# Altium schematic symbol library pwr_switching_module.SchLib: 36 symbols
Pins are listed as number, name and electrical type; pins without a type are passive.

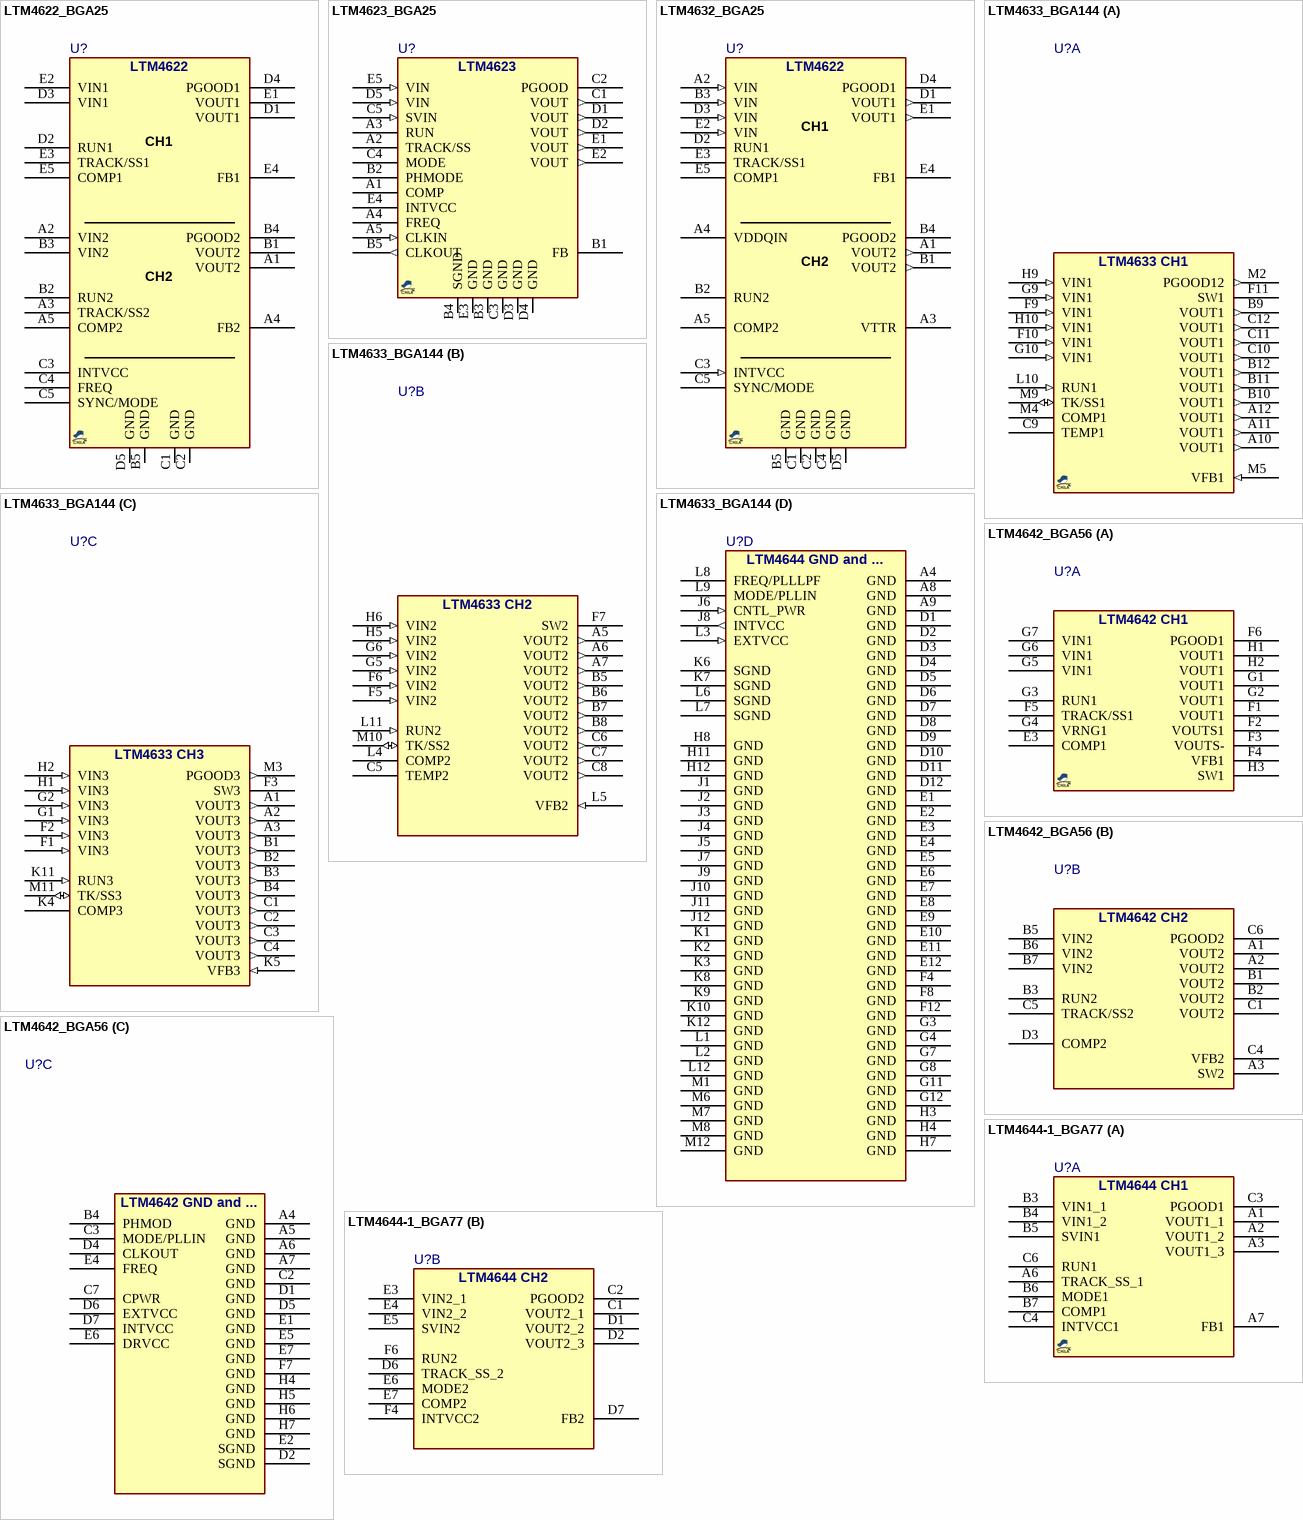
[diagram p0: symbols LTM4622_BGA25 to LTM4644-1_BGA77]

## LTM4622_BGA25
designator U?, comment LTM4622  (value not drawn)
DC2DC Switching MODULE, Dual, 2.5A; MANF: Analog Devices; MANF_P#: LTM4622EY, LTM4622IY; PARAM2: 3.6~20VIN, 0.6~5.5VOUT; PARAM: Dual 2.5A, –40~125°C; PRICE: -; VALUE: LTM4622; PACKAGE: BGA-25
footprint BGA127_25_6262 (BGA 5X5ball, pitch: 1.27mm, 6.25X6.25mm)
pins: A1 VOUT2, A2 VIN2, A3 TRACK/SS2, A4 FB2, A5 COMP2, B1 VOUT2, B2 RUN2, B3 VIN2, B4 PGOOD2, B5 GND, C1 GND, C2 GND, C3 INTVCC, C4 FREQ, C5 SYNC/MODE, D1 VOUT1, D2 RUN1, D3 VIN1, D4 PGOOD1, D5 GND, E1 VOUT1, E2 VIN1, E3 TRACK/SS1, E4 FB1, E5 COMP1
text: CH1; CH2

## LTM4623_BGA25
designator U?, comment LTM4623  (value not drawn)
DC2DC Switching MODULE, 3A; MANF: Analog Devices; MANF_P#: LTM4623IY; PARAM2: 4~20VIN, 0.6~5.5VOUT; PARAM: 3A,-40~125°C; PRICE: -; VALUE: LTM4623; PACKAGE: BGA-25
footprint BGA127_25_6262 (BGA 5X5ball, pitch: 1.27mm, 6.25X6.25mm)
pins: A1 COMP, A2 TRACK/SS, A3 RUN, A4 FREQ, A5 CLKIN (in), B1 FB, B2 PHMODE, B3 GND (power), B4 SGND (power), B5 CLKOUT (out), C1 VOUT (out), C2 PGOOD, C3 GND (power), C4 MODE, C5 SVIN (in), D1 VOUT (out), D2 VOUT (out), D3 GND (power), D4 GND (power), D5 VIN (in), E1 VOUT (out), E2 VOUT (out), E3 GND (power), E4 INTVCC (power), E5 VIN (in)

## LTM4632_BGA25
designator U?, comment LTM4632  (value not drawn)
DC2DC Switching MODULE, dual 3A; MANF: Analog Devices; MANF_P#: LTM4632IY; PARAM2: 3.6~15VIN, 0.6~2.5VOUT; PARAM: Dual 3A,-40~125°C; PRICE: -; VALUE: LTM4632; PACKAGE: BGA-25
footprint BGA127_25_6262 (BGA 5X5ball, pitch: 1.27mm, 6.25X6.25mm)
pins: A1 VOUT2 (out), A2 VIN (in), A3 VTTR, A4 VDDQIN, A5 COMP2, B1 VOUT2 (out), B2 RUN2, B3 VIN (in), B4 PGOOD2, B5 GND, C1 GND, C2 GND, C3 INTVCC (in), C4 GND, C5 SYNC/MODE, D1 VOUT1 (out), D2 RUN1, D3 VIN (in), D4 PGOOD1, D5 GND, E1 VOUT1 (out), E2 VIN (in), E3 TRACK/SS1, E4 FB1, E5 COMP1
text: LTM4622; CH1; CH2

## LTM4633_BGA144
designator U?, comment LTM4633  (value not drawn)
DC2DC Switching MODULE, Triple 10A; MANF: ANALOG DEVICE; MANF_P#: LTM4633EY; PARAM2: 4.7~16VIN, 0.8~5.5VOUT; PARAM: Triple 10A, -40~125°C; PRICE: -; VALUE: LTM4633; PACKAGE: BGA-144
footprint BGA127_144_1515 (BGA 12X12ball, pitch: 1.27mm, 15x15x5mm)
part A pins: A10 VOUT1 (out), A11 VOUT1 (out), A12 VOUT1 (out), B9 VOUT1 (out), B10 VOUT1 (out), B11 VOUT1 (out), B12 VOUT1 (out), C9 TEMP1, C10 VOUT1 (out), C11 VOUT1 (out), C12 VOUT1 (out), F9 VIN1 (in), F10 VIN1 (in), F11 SW1, G9 VIN1 (in), G10 VIN1 (in), H9 VIN1 (in), H10 VIN1 (in), L10 RUN1 (in), M2 PGOOD12 (out), M4 COMP1, M5 VFB1 (in), M9 TK/SS1 (io)
part B pins: A5 VOUT2 (out), A6 VOUT2 (out), A7 VOUT2 (out), B5 VOUT2 (out), B6 VOUT2 (out), B7 VOUT2 (out), B8 VOUT2 (out), C5 TEMP2, C6 VOUT2 (out), C7 VOUT2 (out), C8 VOUT2 (out), F5 VIN2 (in), F6 VIN2 (in), F7 SW2, G5 VIN2 (in), G6 VIN2 (in), H5 VIN2 (in), H6 VIN2 (in), L4 COMP2, L5 VFB2 (in), L11 RUN2 (in), M10 TK/SS2 (io)
part C pins: A1 VOUT3 (out), A2 VOUT3 (out), A3 VOUT3 (out), B1 VOUT3 (out), B2 VOUT3 (out), B3 VOUT3 (out), B4 VOUT3 (out), C1 VOUT3 (out), C2 VOUT3 (out), C3 VOUT3 (out), C4 VOUT3 (out), F1 VIN3 (in), F2 VIN3 (in), F3 SW3, G1 VIN3 (in), G2 VIN3 (in), H1 VIN3 (in), H2 VIN3 (in), K4 COMP3, K5 VFB3 (in), K11 RUN3 (in), M3 PGOOD3 (out), M11 TK/SS3 (io)
part D pins: A4 GND (power), A8 GND (power), A9 GND (power), D1 GND (power), D2 GND (power), D3 GND (power), D4 GND (power), D5 GND (power), D6 GND (power), D7 GND (power), D8 GND (power), D9 GND (power), D10 GND (power), D11 GND (power), D12 GND (power), E1 GND (power), E2 GND (power), E3 GND (power), E4 GND (power), E5 GND (power), E6 GND (power), E7 GND (power), E8 GND (power), E9 GND (power), E10 GND (power), E11 GND (power), E12 GND (power), F4 GND (power), F8 GND (power), F12 GND (power), G3 GND (power), G4 GND (power), G7 GND (power), G8 GND (power), G11 GND (power), G12 GND (power), H3 GND (power), H4 GND (power), H7 GND (power), H8 GND (power), H11 GND (power), H12 GND (power), J1 GND (power), J2 GND (power), J3 GND (power), J4 GND (power), J5 GND (power), J6 CNTL_PWR (in), J7 GND (power), J8 INTVCC (out), J9 GND (power), J10 GND (power), J11 GND (power), J12 GND (power), K1 GND (power), K2 GND (power), K3 GND (power), K6 SGND (power), K7 SGND (power), K8 GND (power), K9 GND (power), K10 GND (power), K12 GND (power), L1 GND (power), L2 GND (power), L3 EXTVCC (in), L6 SGND (power), L7 SGND (power), L8 FREQ/PLLLPF, L9 MODE/PLLIN, L12 GND (power), M1 GND (power), M6 GND (power), M7 GND (power), M8 GND (power), M12 GND (power)
part A text: LTM4633 CH1
part B text: LTM4633 CH2
part C text: LTM4633 CH3
part D text: LTM4644 GND and ...

## LTM4642_BGA56
designator U?, comment LTM4642  (value not drawn)
DC2DC Switching MODULE, DUAL, 4A; MANF: ANALOG DEVICE; MANF_P#: LTM4642EY, LTM4642IY; PARAM2: 4.5~20VIN, 0.6~5.5VOUT; PARAM: 4A, –40~125°C; PRICE: -; VALUE: LTM4642; PACKAGE: BGA-56 9x11
footprint BGA127_56_1109 (LTM4642, BGA 7X8ball, pitch: 1.27mm, 9X11X5mm)
part A pins: E3 COMP1, F1 VOUT1, F2 VOUTS1, F3 VOUTS-, F4 VFB1, F5 TRACK/SS1, F6 PGOOD1, G1 VOUT1, G2 VOUT1, G3 RUN1, G4 VRNG1, G5 VIN1, G6 VIN1, G7 VIN1, H1 VOUT1, H2 VOUT1, H3 SW1
part B pins: A1 VOUT2, A2 VOUT2, A3 SW2, B1 VOUT2, B2 VOUT2, B3 RUN2, B5 VIN2, B6 VIN2, B7 VIN2, C1 VOUT2, C4 VFB2, C5 TRACK/SS2, C6 PGOOD2, D3 COMP2
part C pins: A4 GND, A5 GND, A6 GND, A7 GND, B4 PHMOD, C2 GND, C3 MODE/PLLIN, C7 CPWR, D1 GND, D2 SGND, D4 CLKOUT, D5 GND, D6 EXTVCC, D7 INTVCC, E1 GND, E2 SGND, E4 FREQ, E5 GND, E6 DRVCC, E7 GND, F7 GND, H4 GND, H5 GND, H6 GND, H7 GND
part A text: LTM4642 CH1
part B text: LTM4642 CH2
part C text: LTM4642 GND and ...

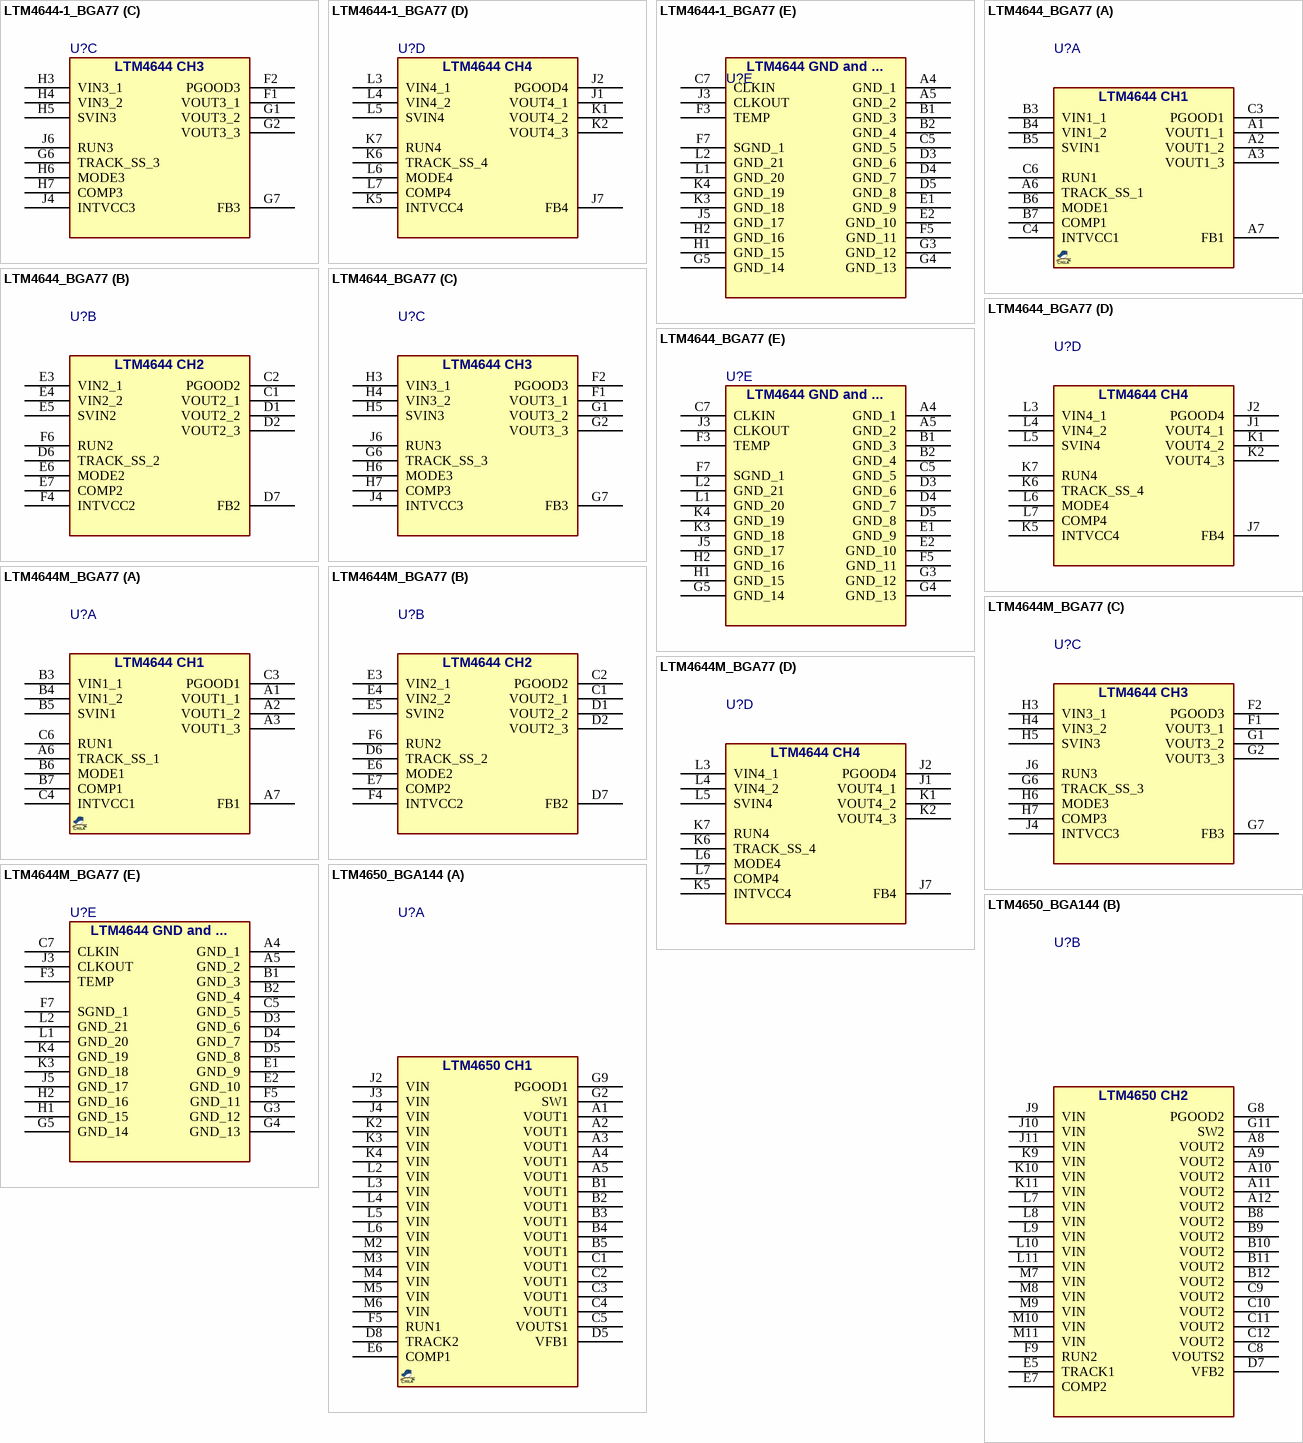
[diagram p1: symbols LTM4644-1_BGA77 to LTM4650_BGA144]

## LTM4644-1_BGA77
designator U?, comment LTM4644  (value not drawn)
DC2DC Switching MODULE, QUAD, 4A; MANF: ANALOG DEVICE; MANF_P#: LTM4644EY-1, LTM4644IY-1; PARAM2: 4~14VIN, 0.6~5.5VOUT; PARAM: 4A, –40~125°C; PRICE: -; VALUE: LTM4644; PACKAGE: BGA-77
footprint BGA127_77_1509 (LTM8026, BGA 8X11ball, pitch: 1.27mm, 9X15mm)
part A pins: A1 VOUT1_1, A2 VOUT1_2, A3 VOUT1_3, A6 TRACK_SS_1, A7 FB1, B3 VIN1_1, B4 VIN1_2, B5 SVIN1, B6 MODE1, B7 COMP1, C3 PGOOD1, C4 INTVCC1, C6 RUN1
part B pins: C1 VOUT2_1, C2 PGOOD2, D1 VOUT2_2, D2 VOUT2_3, D6 TRACK_SS_2, D7 FB2, E3 VIN2_1, E4 VIN2_2, E5 SVIN2, E6 MODE2, E7 COMP2, F4 INTVCC2, F6 RUN2
part C pins: F1 VOUT3_1, F2 PGOOD3, G1 VOUT3_2, G2 VOUT3_3, G6 TRACK_SS_3, G7 FB3, H3 VIN3_1, H4 VIN3_2, H5 SVIN3, H6 MODE3, H7 COMP3, J4 INTVCC3, J6 RUN3
part D pins: J1 VOUT4_1, J2 PGOOD4, J7 FB4, K1 VOUT4_2, K2 VOUT4_3, K5 INTVCC4, K6 TRACK_SS_4, K7 RUN4, L3 VIN4_1, L4 VIN4_2, L5 SVIN4, L6 MODE4, L7 COMP4
part E pins: A4 GND_1, A5 GND_2, B1 GND_3, B2 GND_4, C5 GND_5, C7 CLKIN, D3 GND_6, D4 GND_7, D5 GND_8, E1 GND_9, E2 GND_10, F3 TEMP, F5 GND_11, F7 SGND_1, G3 GND_12, G4 GND_13, G5 GND_14, H1 GND_15, H2 GND_16, J3 CLKOUT, J5 GND_17, K3 GND_18, K4 GND_19, L1 GND_20, L2 GND_21
part A text: LTM4644 CH1
part B text: LTM4644 CH2
part C text: LTM4644 CH3
part D text: LTM4644 CH4
part E text: LTM4644 GND and ...

## LTM4644_BGA77
designator U?, comment LTM4644  (value not drawn)
DC2DC Switching MODULE, QUAD, 4A; MANF: ANALOG DEVICE; MANF_P#: LTM4644EY, LTM4644IY; PARAM2: 4~14VIN, 0.6~5.5VOUT; PARAM: 4A, –40~125°C; PRICE: -; VALUE: LTM4644; PACKAGE: BGA-77
footprint BGA127_77_1509 (LTM8026, BGA 8X11ball, pitch: 1.27mm, 9X15mm)
part A pins: A1 VOUT1_1, A2 VOUT1_2, A3 VOUT1_3, A6 TRACK_SS_1, A7 FB1, B3 VIN1_1, B4 VIN1_2, B5 SVIN1, B6 MODE1, B7 COMP1, C3 PGOOD1, C4 INTVCC1, C6 RUN1
part B pins: C1 VOUT2_1, C2 PGOOD2, D1 VOUT2_2, D2 VOUT2_3, D6 TRACK_SS_2, D7 FB2, E3 VIN2_1, E4 VIN2_2, E5 SVIN2, E6 MODE2, E7 COMP2, F4 INTVCC2, F6 RUN2
part C pins: F1 VOUT3_1, F2 PGOOD3, G1 VOUT3_2, G2 VOUT3_3, G6 TRACK_SS_3, G7 FB3, H3 VIN3_1, H4 VIN3_2, H5 SVIN3, H6 MODE3, H7 COMP3, J4 INTVCC3, J6 RUN3
part D pins: J1 VOUT4_1, J2 PGOOD4, J7 FB4, K1 VOUT4_2, K2 VOUT4_3, K5 INTVCC4, K6 TRACK_SS_4, K7 RUN4, L3 VIN4_1, L4 VIN4_2, L5 SVIN4, L6 MODE4, L7 COMP4
part E pins: A4 GND_1, A5 GND_2, B1 GND_3, B2 GND_4, C5 GND_5, C7 CLKIN, D3 GND_6, D4 GND_7, D5 GND_8, E1 GND_9, E2 GND_10, F3 TEMP, F5 GND_11, F7 SGND_1, G3 GND_12, G4 GND_13, G5 GND_14, H1 GND_15, H2 GND_16, J3 CLKOUT, J5 GND_17, K3 GND_18, K4 GND_19, L1 GND_20, L2 GND_21
part A text: LTM4644 CH1
part B text: LTM4644 CH2
part C text: LTM4644 CH3
part D text: LTM4644 CH4
part E text: LTM4644 GND and ...

## LTM4644M_BGA77
designator U?, comment LTM4644  (value not drawn)
DC2DC Switching MODULE, QUAD, 4A; MANF: ANALOG DEVICE; MANF_P#: LTM4644MPY; PARAM2: 4~14VIN, 0.6~5.5VOUT; PARAM: 4A, –55~125°C; PRICE: -; VALUE: LTM4644; PACKAGE: BGA-77
footprint BGA127_77_1509 (LTM8026, BGA 8X11ball, pitch: 1.27mm, 9X15mm)
part A pins: A1 VOUT1_1, A2 VOUT1_2, A3 VOUT1_3, A6 TRACK_SS_1, A7 FB1, B3 VIN1_1, B4 VIN1_2, B5 SVIN1, B6 MODE1, B7 COMP1, C3 PGOOD1, C4 INTVCC1, C6 RUN1
part B pins: C1 VOUT2_1, C2 PGOOD2, D1 VOUT2_2, D2 VOUT2_3, D6 TRACK_SS_2, D7 FB2, E3 VIN2_1, E4 VIN2_2, E5 SVIN2, E6 MODE2, E7 COMP2, F4 INTVCC2, F6 RUN2
part C pins: F1 VOUT3_1, F2 PGOOD3, G1 VOUT3_2, G2 VOUT3_3, G6 TRACK_SS_3, G7 FB3, H3 VIN3_1, H4 VIN3_2, H5 SVIN3, H6 MODE3, H7 COMP3, J4 INTVCC3, J6 RUN3
part D pins: J1 VOUT4_1, J2 PGOOD4, J7 FB4, K1 VOUT4_2, K2 VOUT4_3, K5 INTVCC4, K6 TRACK_SS_4, K7 RUN4, L3 VIN4_1, L4 VIN4_2, L5 SVIN4, L6 MODE4, L7 COMP4
part E pins: A4 GND_1, A5 GND_2, B1 GND_3, B2 GND_4, C5 GND_5, C7 CLKIN, D3 GND_6, D4 GND_7, D5 GND_8, E1 GND_9, E2 GND_10, F3 TEMP, F5 GND_11, F7 SGND_1, G3 GND_12, G4 GND_13, G5 GND_14, H1 GND_15, H2 GND_16, J3 CLKOUT, J5 GND_17, K3 GND_18, K4 GND_19, L1 GND_20, L2 GND_21
part A text: LTM4644 CH1
part B text: LTM4644 CH2
part C text: LTM4644 CH3
part D text: LTM4644 CH4
part E text: LTM4644 GND and ...

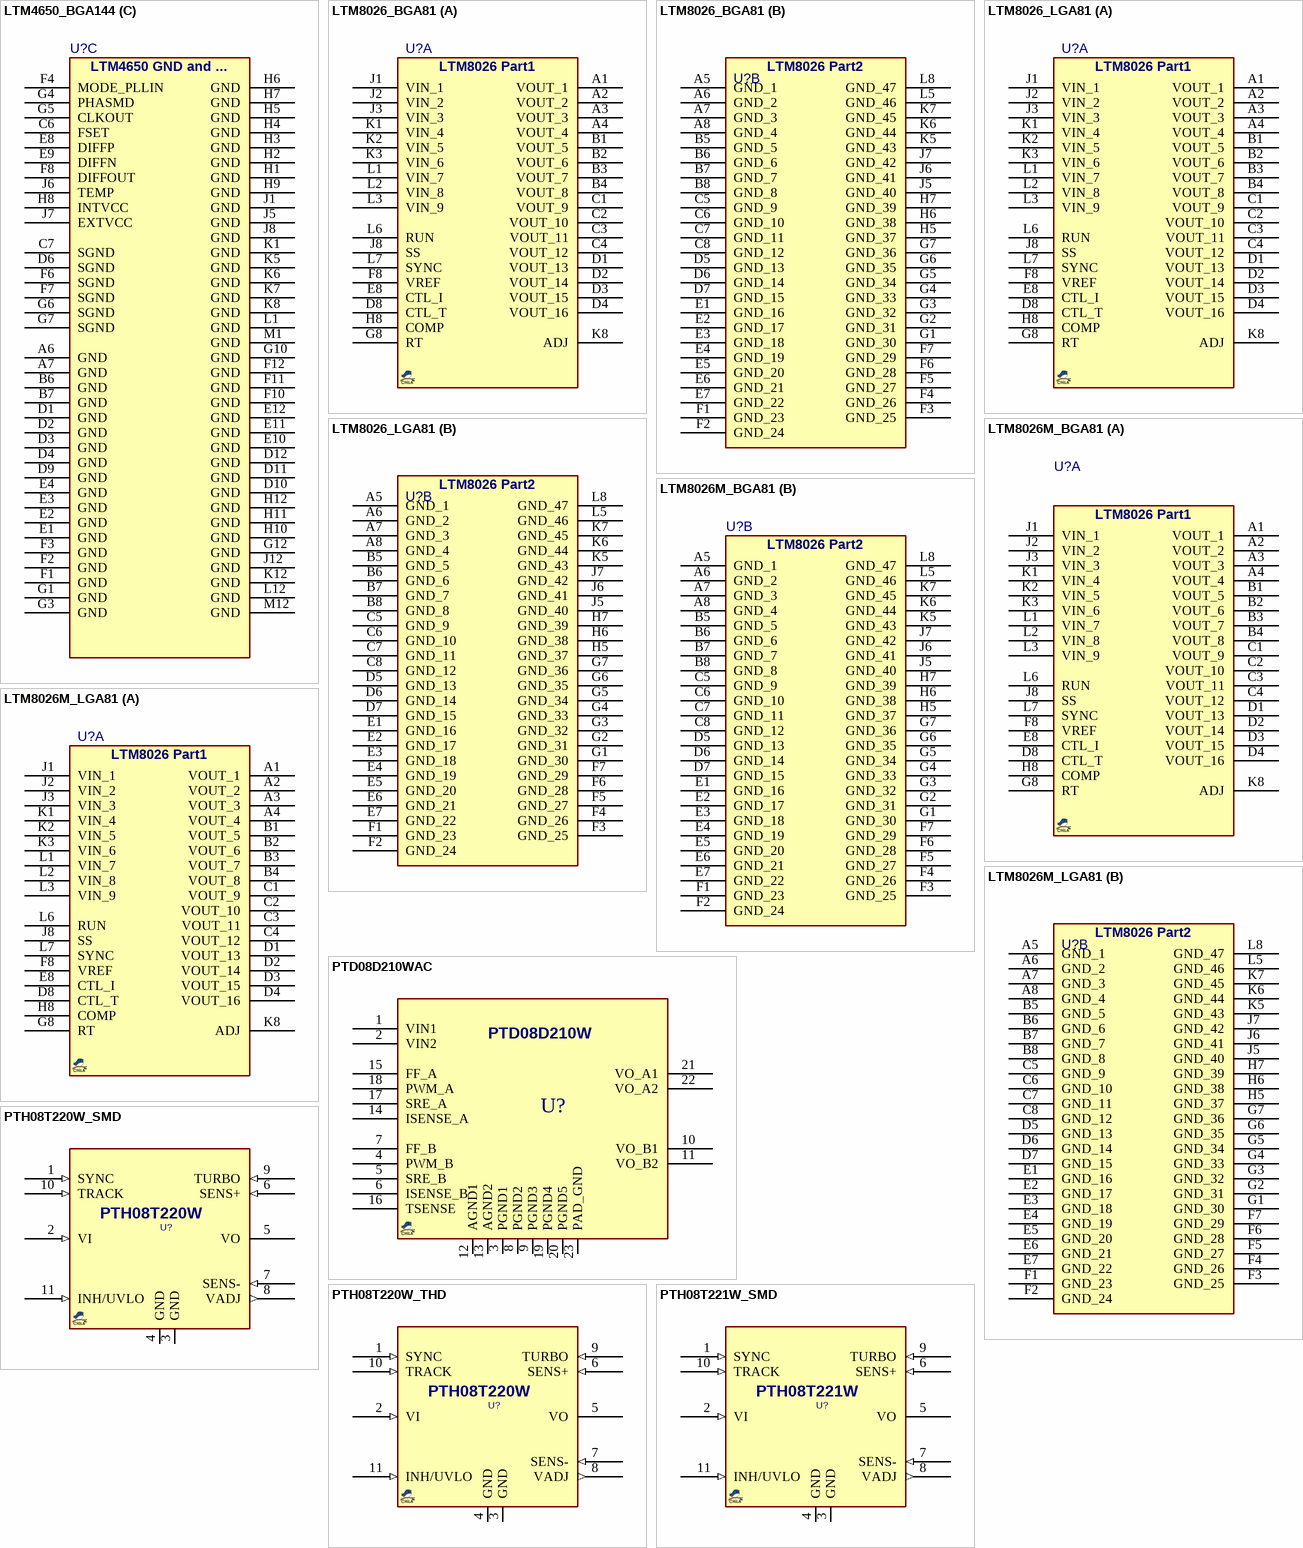
[diagram p2: symbols LTM4650_BGA144 to PTH08T221W_SMD]

## LTM4650_BGA144
designator U?, comment LTM4633  (value not drawn)
DC2DC Switching MODULE, Dual 25A; MANF: ANALOG DEVICE; MANF_P#: LTM4633EY; PARAM2: 4.7~16VIN, 0.8~5.5VOUT; PARAM: Dual 25A, -40~125°C; PRICE: -; VALUE: LTM4633; PACKAGE: BGA-144
footprint BGA127_144_1616 (BGA 12X12ball, pitch: 1.27mm, 16x16x5mm)
part A pins: A1 VOUT1, A2 VOUT1, A3 VOUT1, A4 VOUT1, A5 VOUT1, B1 VOUT1, B2 VOUT1, B3 VOUT1, B4 VOUT1, B5 VOUT1, C1 VOUT1, C2 VOUT1, C3 VOUT1, C4 VOUT1, C5 VOUTS1, D5 VFB1, D8 TRACK2, E6 COMP1, F5 RUN1, G2 SW1, G9 PGOOD1, J2 VIN, J3 VIN, J4 VIN, K2 VIN, K3 VIN, K4 VIN, L2 VIN, L3 VIN, L4 VIN, L5 VIN, L6 VIN, M2 VIN, M3 VIN, M4 VIN, M5 VIN, M6 VIN
part B pins: A8 VOUT2, A9 VOUT2, A10 VOUT2, A11 VOUT2, A12 VOUT2, B8 VOUT2, B9 VOUT2, B10 VOUT2, B11 VOUT2, B12 VOUT2, C8 VOUTS2, C9 VOUT2, C10 VOUT2, C11 VOUT2, C12 VOUT2, D7 VFB2, E5 TRACK1, E7 COMP2, F9 RUN2, G8 PGOOD2, G11 SW2, J9 VIN, J10 VIN, J11 VIN, K9 VIN, K10 VIN, K11 VIN, L7 VIN, L8 VIN, L9 VIN, L10 VIN, L11 VIN, M7 VIN, M8 VIN, M9 VIN, M10 VIN, M11 VIN
part C pins: A6 GND, A7 GND, B6 GND, B7 GND, C6 FSET, C7 SGND, D1 GND, D2 GND, D3 GND, D4 GND, D6 SGND, D9 GND, D10 GND, D11 GND, D12 GND, E1 GND, E2 GND, E3 GND, E4 GND, E8 DIFFP, E9 DIFFN, E10 GND, E11 GND, E12 GND, F1 GND, F2 GND, F3 GND, F4 MODE_PLLIN, F6 SGND, F7 SGND, F8 DIFFOUT, F10 GND, F11 GND, F12 GND, G1 GND, G3 GND, G4 PHASMD, G5 CLKOUT, G6 SGND, G7 SGND, G10 GND, G12 GND, H1 GND, H2 GND, H3 GND, H4 GND, H5 GND, H6 GND, H7 GND, H8 INTVCC, H9 GND, H10 GND, H11 GND, H12 GND, J1 GND, J5 GND, J6 TEMP, J7 EXTVCC, J8 GND, J12 GND, K1 GND, K5 GND, K6 GND, K7 GND, K8 GND, K12 GND, L1 GND, L12 GND, M1 GND, M12 GND
part A text: LTM4650 CH1
part B text: LTM4650 CH2
part C text: LTM4650 GND and ...

## LTM8026_BGA81
designator U?, comment LTM8026  (value not drawn)
DC2DC Switching MODULE, 5A; MANF: ANALOG DEVICE; MANF_P#: LTM8026EY, LTM8026IY; PARAM2: 6~36VIN, 1.2~24VOUT; PARAM: 5A, –40~125°C; PRICE: -; VALUE: LTM8026; PACKAGE: BGA-81
footprint BGA127_81_1511 (LTM8026, BGA 8X11ball, pitch: 1.27mm, 15x11.25mm)
part A pins: A1 VOUT_1, A2 VOUT_2, A3 VOUT_3, A4 VOUT_4, B1 VOUT_5, B2 VOUT_6, B3 VOUT_7, B4 VOUT_8, C1 VOUT_9, C2 VOUT_10, C3 VOUT_11, C4 VOUT_12, D1 VOUT_13, D2 VOUT_14, D3 VOUT_15, D4 VOUT_16, D8 CTL_T, E8 CTL_I, F8 VREF, G8 RT, H8 COMP, J1 VIN_1, J2 VIN_2, J3 VIN_3, J8 SS, K1 VIN_4, K2 VIN_5, K3 VIN_6, K8 ADJ, L1 VIN_7, L2 VIN_8, L3 VIN_9, L6 RUN, L7 SYNC
part B pins: A5 GND_1, A6 GND_2, A7 GND_3, A8 GND_4, B5 GND_5, B6 GND_6, B7 GND_7, B8 GND_8, C5 GND_9, C6 GND_10, C7 GND_11, C8 GND_12, D5 GND_13, D6 GND_14, D7 GND_15, E1 GND_16, E2 GND_17, E3 GND_18, E4 GND_19, E5 GND_20, E6 GND_21, E7 GND_22, F1 GND_23, F2 GND_24, F3 GND_25, F4 GND_26, F5 GND_27, F6 GND_28, F7 GND_29, G1 GND_30, G2 GND_31, G3 GND_32, G4 GND_33, G5 GND_34, G6 GND_35, G7 GND_36, H5 GND_37, H6 GND_38, H7 GND_39, J5 GND_40, J6 GND_41, J7 GND_42, K5 GND_43, K6 GND_44, K7 GND_45, L5 GND_46, L8 GND_47
part A text: LTM8026 Part1
part B text: LTM8026 Part2

## LTM8026_LGA81
designator U?, comment LTM8026  (value not drawn)
DC2DC Switching MODULE, 5A; MANF: ANALOG DEVICE; MANF_P#: LTM8026EV, LTM8026IV; PARAM2: 6~36VIN, 1.2~24VOUT; PARAM: 5A, –40~125°C; PRICE: -; VALUE: LTM8026; PACKAGE: LGA-81
footprint LGA127_81_1511 (LTM8026, LGA 8X11ball, pitch: 1.27mm, 15x11.25mm)
part A pins: A1 VOUT_1, A2 VOUT_2, A3 VOUT_3, A4 VOUT_4, B1 VOUT_5, B2 VOUT_6, B3 VOUT_7, B4 VOUT_8, C1 VOUT_9, C2 VOUT_10, C3 VOUT_11, C4 VOUT_12, D1 VOUT_13, D2 VOUT_14, D3 VOUT_15, D4 VOUT_16, D8 CTL_T, E8 CTL_I, F8 VREF, G8 RT, H8 COMP, J1 VIN_1, J2 VIN_2, J3 VIN_3, J8 SS, K1 VIN_4, K2 VIN_5, K3 VIN_6, K8 ADJ, L1 VIN_7, L2 VIN_8, L3 VIN_9, L6 RUN, L7 SYNC
part B pins: A5 GND_1, A6 GND_2, A7 GND_3, A8 GND_4, B5 GND_5, B6 GND_6, B7 GND_7, B8 GND_8, C5 GND_9, C6 GND_10, C7 GND_11, C8 GND_12, D5 GND_13, D6 GND_14, D7 GND_15, E1 GND_16, E2 GND_17, E3 GND_18, E4 GND_19, E5 GND_20, E6 GND_21, E7 GND_22, F1 GND_23, F2 GND_24, F3 GND_25, F4 GND_26, F5 GND_27, F6 GND_28, F7 GND_29, G1 GND_30, G2 GND_31, G3 GND_32, G4 GND_33, G5 GND_34, G6 GND_35, G7 GND_36, H5 GND_37, H6 GND_38, H7 GND_39, J5 GND_40, J6 GND_41, J7 GND_42, K5 GND_43, K6 GND_44, K7 GND_45, L5 GND_46, L8 GND_47
part A text: LTM8026 Part1
part B text: LTM8026 Part2

## LTM8026M_BGA81
designator U?, comment LTM8026  (value not drawn)
DC2DC Switching MODULE, 5A; MANF: ANALOG DEVICE; MANF_P#: LTM8026MPY; PARAM2: 6~36VIN, 1.2~24VOUT; PARAM: 5A, –55~125°C; PRICE: -; VALUE: LTM8026; PACKAGE: BGA-81
footprint BGA127_81_1511 (LTM8026, BGA 8X11ball, pitch: 1.27mm, 15x11.25mm)
part A pins: A1 VOUT_1, A2 VOUT_2, A3 VOUT_3, A4 VOUT_4, B1 VOUT_5, B2 VOUT_6, B3 VOUT_7, B4 VOUT_8, C1 VOUT_9, C2 VOUT_10, C3 VOUT_11, C4 VOUT_12, D1 VOUT_13, D2 VOUT_14, D3 VOUT_15, D4 VOUT_16, D8 CTL_T, E8 CTL_I, F8 VREF, G8 RT, H8 COMP, J1 VIN_1, J2 VIN_2, J3 VIN_3, J8 SS, K1 VIN_4, K2 VIN_5, K3 VIN_6, K8 ADJ, L1 VIN_7, L2 VIN_8, L3 VIN_9, L6 RUN, L7 SYNC
part B pins: A5 GND_1, A6 GND_2, A7 GND_3, A8 GND_4, B5 GND_5, B6 GND_6, B7 GND_7, B8 GND_8, C5 GND_9, C6 GND_10, C7 GND_11, C8 GND_12, D5 GND_13, D6 GND_14, D7 GND_15, E1 GND_16, E2 GND_17, E3 GND_18, E4 GND_19, E5 GND_20, E6 GND_21, E7 GND_22, F1 GND_23, F2 GND_24, F3 GND_25, F4 GND_26, F5 GND_27, F6 GND_28, F7 GND_29, G1 GND_30, G2 GND_31, G3 GND_32, G4 GND_33, G5 GND_34, G6 GND_35, G7 GND_36, H5 GND_37, H6 GND_38, H7 GND_39, J5 GND_40, J6 GND_41, J7 GND_42, K5 GND_43, K6 GND_44, K7 GND_45, L5 GND_46, L8 GND_47
part A text: LTM8026 Part1
part B text: LTM8026 Part2

## LTM8026M_LGA81
designator U?, comment LTM8026  (value not drawn)
DC2DC Switching MODULE, 5A; MANF: ANALOG DEVICE; MANF_P#: LTM8026MPV; PARAM2: 6~36VIN, 1.2~24VOUT; PARAM: 5A, –55~125°C; PRICE: -; VALUE: LTM8026; PACKAGE: LGA-81
footprint LGA127_81_1511 (LTM8026, LGA 8X11ball, pitch: 1.27mm, 15x11.25mm)
part A pins: A1 VOUT_1, A2 VOUT_2, A3 VOUT_3, A4 VOUT_4, B1 VOUT_5, B2 VOUT_6, B3 VOUT_7, B4 VOUT_8, C1 VOUT_9, C2 VOUT_10, C3 VOUT_11, C4 VOUT_12, D1 VOUT_13, D2 VOUT_14, D3 VOUT_15, D4 VOUT_16, D8 CTL_T, E8 CTL_I, F8 VREF, G8 RT, H8 COMP, J1 VIN_1, J2 VIN_2, J3 VIN_3, J8 SS, K1 VIN_4, K2 VIN_5, K3 VIN_6, K8 ADJ, L1 VIN_7, L2 VIN_8, L3 VIN_9, L6 RUN, L7 SYNC
part B pins: A5 GND_1, A6 GND_2, A7 GND_3, A8 GND_4, B5 GND_5, B6 GND_6, B7 GND_7, B8 GND_8, C5 GND_9, C6 GND_10, C7 GND_11, C8 GND_12, D5 GND_13, D6 GND_14, D7 GND_15, E1 GND_16, E2 GND_17, E3 GND_18, E4 GND_19, E5 GND_20, E6 GND_21, E7 GND_22, F1 GND_23, F2 GND_24, F3 GND_25, F4 GND_26, F5 GND_27, F6 GND_28, F7 GND_29, G1 GND_30, G2 GND_31, G3 GND_32, G4 GND_33, G5 GND_34, G6 GND_35, G7 GND_36, H5 GND_37, H6 GND_38, H7 GND_39, J5 GND_40, J6 GND_41, J7 GND_42, K5 GND_43, K6 GND_44, K7 GND_45, L5 GND_46, L8 GND_47
part A text: LTM8026 Part1
part B text: LTM8026 Part2

## PTD08D210WAC
designator U?, comment PTD08D210W  (value not drawn)
DC2DC Switching MODULE, Dual, 10A, Digital; MANF: TI; MANF_P#: PTD08D210WAC; PARAM2: 4.75~14VIN, 0.7~3.6VOUT; PARAM: Dual 10A, Digital, –40~85°C; PRICE: 17$; VALUE: PTD08D210W
footprint TI_PTD_EFS_22 (Footprint not found)
pins: 1 VIN1, 2 VIN2, 3 PGND1, 4 PWM_B, 5 SRE_B, 6 ISENSE_B, 7 FF_B, 8 PGND2, 9 PGND3, 10 VO_B1, 11 VO_B2, 12 AGND1, 13 AGND2, 14 ISENSE_A, 15 FF_A, 16 TSENSE, 17 SRE_A, 18 PWM_A, 19 PGND4, 20 PGND5, 21 VO_A1, 22 VO_A2, 23 PAD_GND

## PTH08T220W_SMD
designator U?, comment PTH08T220W  (value not drawn)
DC2DC Switching MODULE, 16A, SMD; MANF_P#: PTH08T220WAS; PARAM2: 4.75~14VIN, 0.7~5.5VOUT; DESC: PTH08T220WAST, PTH08T220WAZ; MANF: TI; PARAM: Dual 16A, -40~85°C; PRICE: 23$; VALUE: PTH08T220W
footprint TI_PTH_EAT_11 (Footprint not found)
pins: 1 SYNC (in), 2 VI (in), 3 GND (power), 4 GND (power), 5 VO (power), 6 SENS+ (in), 7 SENS- (in), 8 VADJ (out), 9 TURBO (in), 10 TRACK (in), 11 INH/UVLO (in)

## PTH08T220W_THD
designator U?, comment PTH08T220W  (value not drawn)
DC2DC Switching MODULE, 16A, THD; MANF_P#: PTH08T220WAH; PARAM2: 4.75~14VIN, 0.7~5.5VOUT; DESC: PTH08T220WAD; MANF: TI; PARAM: Dual 16A, -40~85°C; PRICE: 23$; VALUE: PTH08T220W
footprint TI_PTH_EAS_11 (Footprint not found)
pins: 1 SYNC (in), 2 VI (in), 3 GND (power), 4 GND (power), 5 VO (power), 6 SENS+ (in), 7 SENS- (in), 8 VADJ (out), 9 TURBO (in), 10 TRACK (in), 11 INH/UVLO (in)

## PTH08T221W_SMD
designator U?, comment PTH08T221W  (value not drawn)
DC2DC Switching MODULE, 16A, Ceramic Cap, SMD; MANF_P#: PTH08T221WAS; PARAM2: 4.75~14VIN, 0.7~5.5VOUT; DESC: PTH08T221WAZ; MANF: TI; PARAM: Dual 16A, -40~85°C; PRICE: 23$; VALUE: PTH08T221W
footprint TI_PTH_EAT_11 (Footprint not found)
pins: 1 SYNC (in), 2 VI (in), 3 GND (power), 4 GND (power), 5 VO (power), 6 SENS+ (in), 7 SENS- (in), 8 VADJ (out), 9 TURBO (in), 10 TRACK (in), 11 INH/UVLO (in)

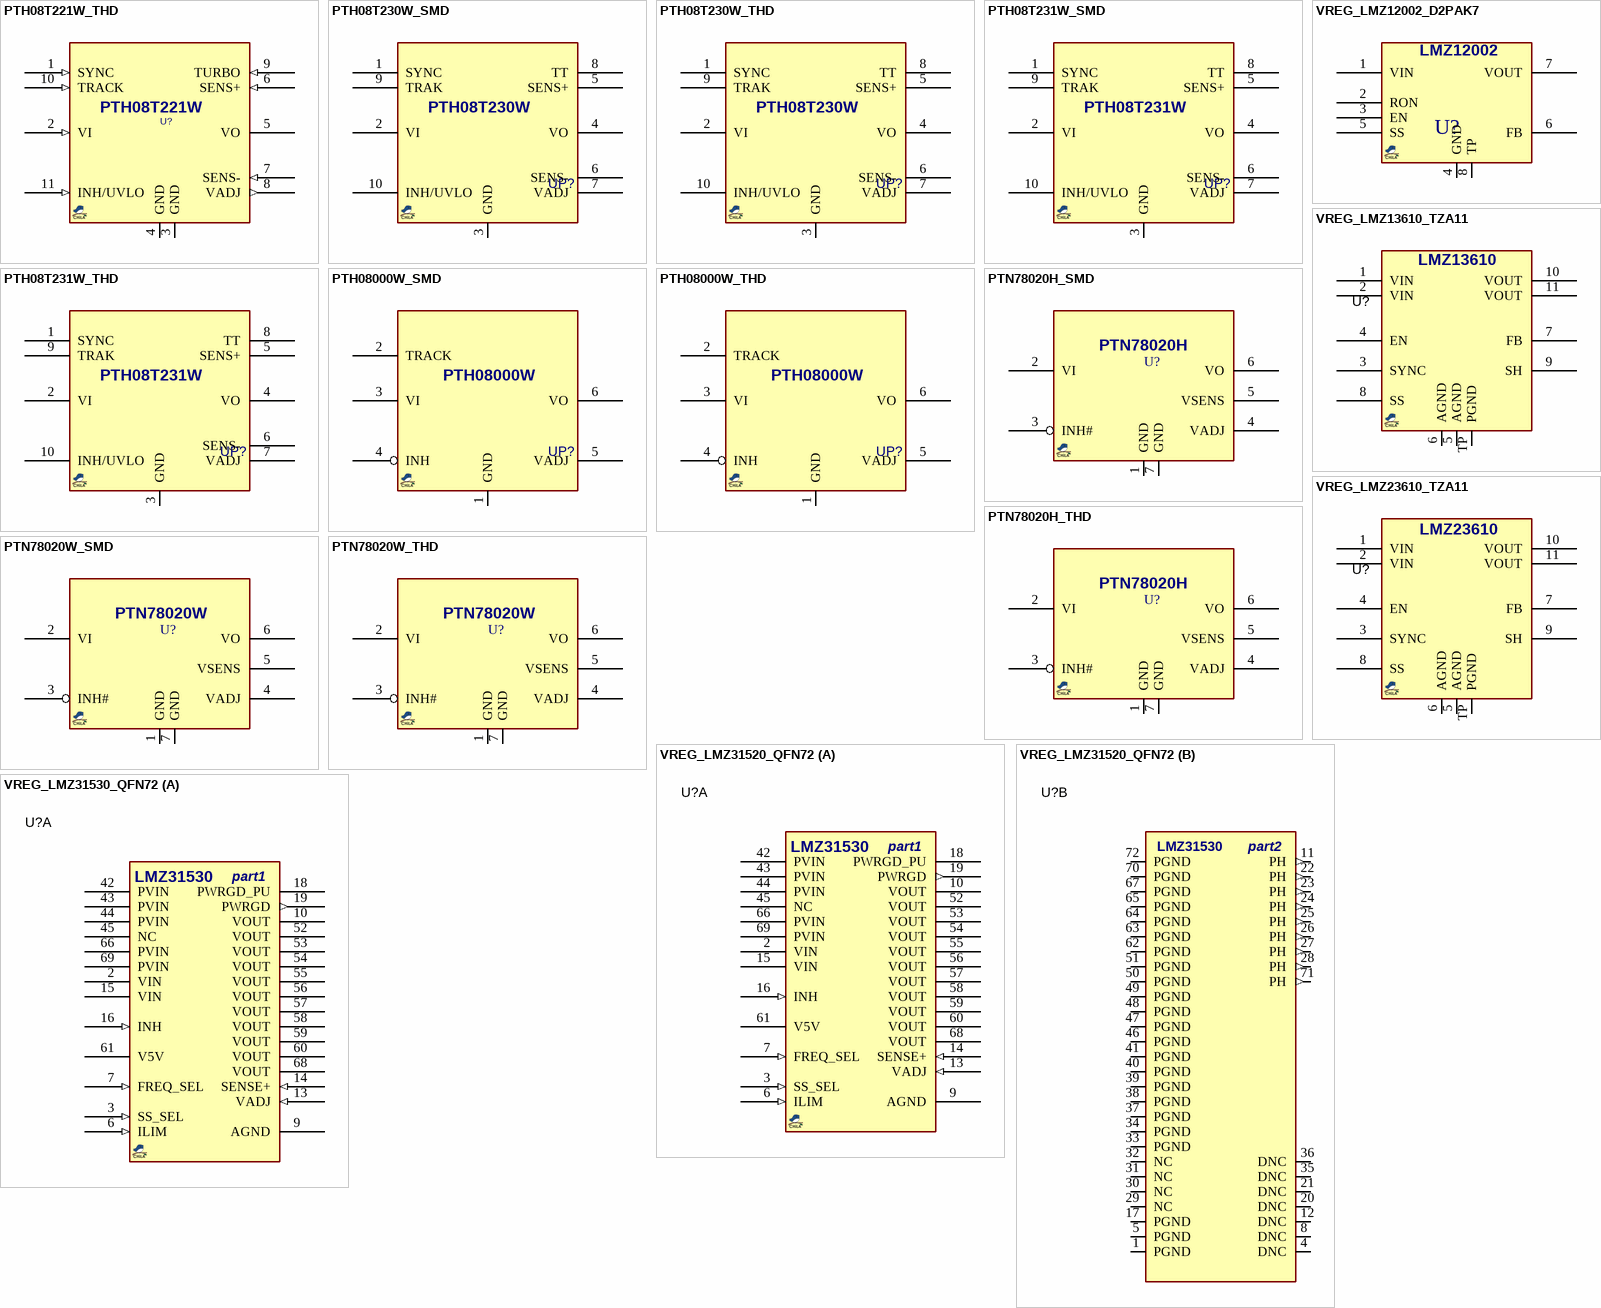
[diagram p3: symbols PTH08T221W_THD to VREG_LMZ31530_QFN72]

## PTH08T221W_THD
designator U?, comment PTH08T221W  (value not drawn)
DC2DC Switching MODULE, 16A, Ceramic Cap, THD; MANF_P#: PTH08T221WAD; PARAM2: 4.75~14VIN, 0.7~5.5VOUT; MANF: TI; PARAM: Dual 16A, -40~85°C; PRICE: 23$; VALUE: PTH08T221W
footprint TI_PTH_EAS_11 (Footprint not found)
pins: 1 SYNC (in), 2 VI (in), 3 GND (power), 4 GND (power), 5 VO (power), 6 SENS+ (in), 7 SENS- (in), 8 VADJ (out), 9 TURBO (in), 10 TRACK (in), 11 INH/UVLO (in)

## PTH08T230W_SMD
designator UP?, comment PTH08T230W  (value not drawn)
DC2DC Switching MODULE, 6A, SMD; MANF: TI; PARAM: 6A, -40~85°C; DESC: PTH08T230WAS; MANF_P#: PTH08T230WAZ; PARAM2: 4.5~14VIN, 0.7~5.5VOUT; ASSEMBLY: ASSEMBLY; PRICE: 13$; VALUE: PTH08T230W
footprint TI_PTH_ECM_10 (Footprint not found)
pins: 1 SYNC, 2 VI, 3 GND, 4 VO, 5 SENS+, 6 SENS-, 7 VADJ, 8 TT, 9 TRAK, 10 INH/UVLO

## PTH08T230W_THD
designator UP?, comment PTH08T230W  (value not drawn)
DC2DC Switching MODULE, 6A, SMD; MANF: TI; PARAM: 6A, -40~85°C; DESC: DESCRIPTION; MANF_P#: PTH08T230WAD; PARAM2: 4.5~14VIN, 0.7~5.5VOUT; ASSEMBLY: ASSEMBLY; PRICE: 13$; VALUE: PTH08T230W
footprint TI_PTH_ECL_10 (Module, 10-Leads, Body 18.92x15.75 mm)
pins: 1 SYNC, 2 VI, 3 GND, 4 VO, 5 SENS+, 6 SENS-, 7 VADJ, 8 TT, 9 TRAK, 10 INH/UVLO

## PTH08T231W_SMD
designator UP?, comment PTH08T231W  (value not drawn)
DC2DC Switching MODULE, 6A, Ceramic Cap, SMD; MANF: TI; PARAM: 6A, -40~85°C; DESC: DESCRIPTION; DIST#: PTH08T231WAS; MANF_P#: PTH08T231WAZ; PARAM2: 4.5~14VIN, 0.7~5.5VOUT; ASSEMBLY: ASSEMBLY; PRICE: 13$; VALUE: PTH08T231W
footprint TI_PTH_ECM_10 (Footprint not found)
pins: 1 SYNC, 2 VI, 3 GND, 4 VO, 5 SENS+, 6 SENS-, 7 VADJ, 8 TT, 9 TRAK, 10 INH/UVLO

## PTH08T231W_THD
designator UP?, comment PTH08T231W  (value not drawn)
DC2DC Switching MODULE, 6A, Ceramic Cap, SMD; MANF: TI; PARAM: 6A, -40~85°C; DESC: DESCRIPTION; MANF_P#: PTH08T231WAD; PARAM2: 4.5~14VIN, 0.7~5.5VOUT; ASSEMBLY: ASSEMBLY; PRICE: 13$; VALUE: PTH08T231W
footprint TI_PTH_ECL_10 (Module, 10-Leads, Body 18.92x15.75 mm)
pins: 1 SYNC, 2 VI, 3 GND, 4 VO, 5 SENS+, 6 SENS-, 7 VADJ, 8 TT, 9 TRAK, 10 INH/UVLO

## PTH08000W_SMD
designator UP?, comment PTH08000W  (value not drawn)
DC2DC Switching MODULE, 2.2A, SMD; MANF: TI; PARAM: 2.2A, -40~85°C; DESC: PTH08000WAST, PTH08000WAZ, PTH08000WAZT; MANF_P#: PTH08000WAS; PARAM2: 4.5~14VIN, 0.9~5.5VOUT; ASSEMBLY: ASSEMBLY; PRICE: 8$; VALUE: PTH08000W
footprint TI_PTH_EUT_6 (TexasInstruments POWERMODULE, EUT Package 18.9x12.6mm)
pins: 1 GND, 2 TRACK, 3 VI, 4 INH, 5 VADJ, 6 VO

## PTH08000W_THD
designator UP?, comment PTH08000W  (value not drawn)
DC2DC Switching MODULE, 2.2A, SMD; MANF: TI; PARAM: 2.2A, -40~85°C; DESC: DESCRIPTION; MANF_P#: PTH08000WAH; PARAM2: 4.5~14VIN, 0.9~5.5VOUT; ASSEMBLY: ASSEMBLY; PRICE: 8$; VALUE: PTH08000W
footprint TI_PTH_EUS_6 (TexasInstruments POWERMODULE, EUS Package 18.9x12.6mm)
pins: 1 GND, 2 TRACK, 3 VI, 4 INH, 5 VADJ, 6 VO

## PTN78020H_SMD
designator U?, comment PTN78020H  (value not drawn)
DC2DC Switching MODULE, 6A, SMD; MANF_P#: PTN78020HAS; PARAM2: 15~36VIN, 11.9~22VOUT; DESC: PTN78020HAZ; MANF: TI; PARAM: 6A, -40~85°C; PRICE: 25@; VALUE: PTN78020H
footprint TI_PTN_EUL_7 (TexasInstruments POWERMODULE, EUL, 38X22.1mm)
pins: 1 GND, 2 VI, 3 INH#, 4 VADJ, 5 VSENS, 6 VO, 7 GND

## PTN78020H_THD
designator U?, comment PTN78020H  (value not drawn)
DC2DC Switching MODULE, 6A, THD; MANF_P#: PTN78020HAH; PARAM2: 15~36VIN, 11.9~22VOUT; MANF: TI; PARAM: 6A, -40~85°C; PRICE: 25@; Value: PTN78020H
footprint TI_PTN_EUK_7 (TexasInstruments POWERMODULE, EUK, 38X22.1mm)
pins: 1 GND, 2 VI, 3 INH#, 4 VADJ, 5 VSENS, 6 VO, 7 GND

## PTN78020W_SMD
designator U?, comment PTN78020W  (value not drawn)
DC2DC Switching MODULE, 6A, SMD; MANF_P#: PTN78020WAS; PARAM2: 7~36VIN, 2.5~12.6VOUT; DESC: PTN78020WAZ, PTN78020WAZT; MANF: TI; PARAM: 6A, -40~85°C; PRICE: 25@; Value: PTN78020W
footprint TI_PTN_EUL_7 (TexasInstruments POWERMODULE, EUL, 38X22.1mm)
pins: 1 GND, 2 VI, 3 INH#, 4 VADJ, 5 VSENS, 6 VO, 7 GND

## PTN78020W_THD
designator U?, comment PTN78020W  (value not drawn)
DC2DC Switching MODULE, 6A, THD; MANF_P#: PTN78020WAD; PARAM2: 7~36VIN, 2.5~12.6VOUT; DESC: PTN78020WAH; MANF: TI; PARAM: 6A, -40~85°C; PRICE: 25@; Value: PTN78020W
footprint TI_PTN_EUK_7 (TexasInstruments POWERMODULE, EUK, 38X22.1mm)
pins: 1 GND, 2 VI, 3 INH#, 4 VADJ, 5 VSENS, 6 VO, 7 GND

## VREG_LMZ12002_D2PAK7
designator U?, comment LMZ12002  (value not drawn)
DC2DC Switching MODULE, Buck, 2A, ADJ, 1MHz, DPAK-7; PARAM: 2A, ADJ; PARAM2: 1MHz, 4.5~20VIN; MANF: TI; MANF_P#: LMZ12002; VALUE: LMZ12002; PACKAGE: D2PAK-7
footprint D2PAK_7 (TO-263-7, D2PAK-7, NDW-7, TO-PMOD-7)
pins: 1 VIN, 2 RON, 3 EN, 4 GND, 5 SS, 6 FB, 7 VOUT, 8 TP

## VREG_LMZ13610_TZA11
designator U?, comment LMZ13610  (value not drawn)
DC2DC Switching MODULE, Buck, 10A, ADJ, 0.35MHz, 6~36VIN, TZA11, integrated Inductor; PARAM2: 0.35MHz, 6~36Vin; 50W; MANF: TI; MANF_P#: LMZ23610TZ/NOPB; PARAM: 10A, ADJ, -40~85oC; PRICE: 22$; VALUE: LMZ13610; PACKAGE: PFM-11
footprint PFM_11 (PFM11 (TI), TZA11A, pitch: 127mm, 11p, 15X15mm)
pins: 1 VIN, 2 VIN, 3 SYNC, 4 EN, 5 AGND, 6 AGND, 7 FB, 8 SS, 9 SH, 10 VOUT, 11 VOUT, TP PGND

## VREG_LMZ23610_TZA11
designator U?, comment LMZ23610  (value not drawn)
DC2DC Switching MODULE, Buck, 10A, ADJ, 0.6MHz, 6~36VIN, TZA11, integrated Inductor; PARAM2: 0.6MHz, 6~36Vin; 50W; MANF: Texas Instruments; MANF_P#: LMZ23610TZ/NOPB; PARAM: 10A, ADJ, -40~85oC; PRICE: 22$; Value: LMZ23610; PACKAGE: PFM-11
footprint PFM_11 (PFM11 (TI), TZA11A, pitch: 127mm, 11p, 15X15mm)
pins: 1 VIN, 2 VIN, 3 SYNC, 4 EN, 5 AGND, 6 AGND, 7 FB, 8 SS, 9 SH, 10 VOUT, 11 VOUT, TP PGND

## VREG_LMZ31520_QFN72
designator U?, comment LMZ31520  (value not drawn)
DC2DC Switching MODULE, Buck, 20A, ADJ, 0.3~0.85MHz, 3~14.5VIN, RLG-72, integrated Inductor; MANF: Texas Instruments; MANF_P#: LMZ31530RLG; PARAM: 20A, ADJ, -40~85oC; PARAM2: 0.3~0.85MHz, 3~14.5Vin; PRICE: 24$; VALUE: LMZ31520; PACKAGE: RLG-72
footprint QFN80_RLG72 (RLG-72)
part A pins: 2 VIN (power), 3 SS_SEL (in), 6 ILIM (in), 7 FREQ_SEL (in), 9 AGND (power), 10 VOUT (power), 13 VADJ (in), 14 SENSE+ (in), 15 VIN (power), 16 INH (in), 18 PWRGD_PU (power), 19 PWRGD (out), 42 PVIN (power), 43 PVIN (power), 44 PVIN (power), 45 NC, 52 VOUT (power), 53 VOUT (power), 54 VOUT (power), 55 VOUT (power), 56 VOUT (power), 57 VOUT (power), 58 VOUT (power), 59 VOUT (power), 60 VOUT (power), 61 V5V (power), 66 PVIN (power), 68 VOUT (power), 69 PVIN (power)
part B pins: 1 PGND (power), 4 DNC, 5 PGND (power), 8 DNC, 11 PH (out), 12 DNC, 17 PGND (power), 20 DNC, 21 DNC, 22 PH (out), 23 PH (out), 24 PH (out), 25 PH (out), 26 PH (out), 27 PH (out), 28 PH (out), 29 NC, 30 NC, 31 NC, 32 NC, 33 PGND (power), 34 PGND (power), 35 DNC, 36 DNC, 37 PGND (power), 38 PGND (power), 39 PGND (power), 40 PGND (power), 41 PGND (power), 46 PGND (power), 47 PGND (power), 48 PGND (power), 49 PGND (power), 50 PGND (power), 51 PGND (power), 62 PGND (power), 63 PGND (power), 64 PGND (power), 65 PGND (power), 67 PGND (power), 70 PGND (power), 71 PH (out), 72 PGND (power)
part A text: LMZ31530; part1
part B text: LMZ31530; part2

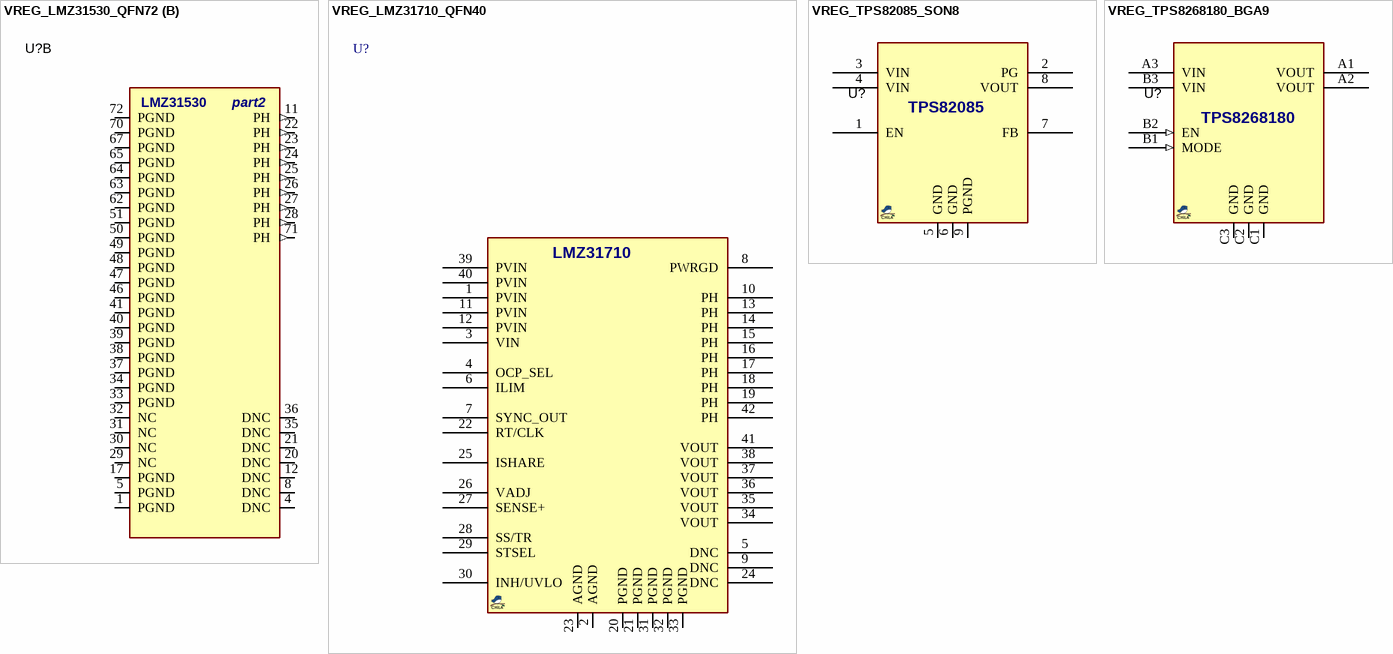
[diagram p4: symbols VREG_LMZ31530_QFN72 to VREG_TPS8268180_BGA9]

## VREG_LMZ31530_QFN72
designator U?, comment LMZ31530  (value not drawn)
DC2DC Switching MODULE, Buck, 30A, ADJ, 0.3~0.85MHz, 3~14.5VIN, RLG-72, integrated Inductor; MANF: Texas Instruments; MANF_P#: LMZ31530RLG; PARAM: 30A, ADJ, -40~85oC; PARAM2: 0.3~0.85MHz, 3~14.5Vin; PRICE: 24$; VALUE: LMZ31530; PACKAGE: RLG-72
footprint QFN80_RLG72 (RLG-72)
part A pins: 2 VIN (power), 3 SS_SEL (in), 6 ILIM (in), 7 FREQ_SEL (in), 9 AGND (power), 10 VOUT (power), 13 VADJ (in), 14 SENSE+ (in), 15 VIN (power), 16 INH (in), 18 PWRGD_PU (power), 19 PWRGD (out), 42 PVIN (power), 43 PVIN (power), 44 PVIN (power), 45 NC, 52 VOUT (power), 53 VOUT (power), 54 VOUT (power), 55 VOUT (power), 56 VOUT (power), 57 VOUT (power), 58 VOUT (power), 59 VOUT (power), 60 VOUT (power), 61 V5V (power), 66 PVIN (power), 68 VOUT (power), 69 PVIN (power)
part B pins: 1 PGND (power), 4 DNC, 5 PGND (power), 8 DNC, 11 PH (out), 12 DNC, 17 PGND (power), 20 DNC, 21 DNC, 22 PH (out), 23 PH (out), 24 PH (out), 25 PH (out), 26 PH (out), 27 PH (out), 28 PH (out), 29 NC, 30 NC, 31 NC, 32 NC, 33 PGND (power), 34 PGND (power), 35 DNC, 36 DNC, 37 PGND (power), 38 PGND (power), 39 PGND (power), 40 PGND (power), 41 PGND (power), 46 PGND (power), 47 PGND (power), 48 PGND (power), 49 PGND (power), 50 PGND (power), 51 PGND (power), 62 PGND (power), 63 PGND (power), 64 PGND (power), 65 PGND (power), 67 PGND (power), 70 PGND (power), 71 PH (out), 72 PGND (power)
part A text: part1
part B text: part2

## VREG_LMZ31710_QFN40
designator U?, comment LMZ31710  (value not drawn)
DC2DC Switching MODULE, Buck, 10A, ADJ, 1.2MHz, 3~17VIN, QFN40; MANF: Texas Instruments; MANF_P#: LMZ31710RVQ; PARAM: 10A, ADJ; PARAM2: 1.2MHz, 3~17VIN; PRICE: 9$; VALUE: LMZ31710; PACKAGE: RVQ-40
footprint QFN80_40T2 (QFN, 40-Leads, Body 10x10mm, Pitch 0.80mm RVQ (TI))
pins: 1 PVIN, 2 AGND, 3 VIN, 4 OCP_SEL, 5 DNC, 6 ILIM, 7 SYNC_OUT, 8 PWRGD, 9 DNC, 10 PH, 11 PVIN, 12 PVIN, 13 PH, 14 PH, 15 PH, 16 PH, 17 PH, 18 PH, 19 PH, 20 PGND, 21 PGND, 22 RT/CLK, 23 AGND, 24 DNC, 25 ISHARE, 26 VADJ, 27 SENSE+, 28 SS/TR, 29 STSEL, 30 INH/UVLO, 31 PGND, 32 PGND, 33 PGND, 34 VOUT, 35 VOUT, 36 VOUT, 37 VOUT, 38 VOUT, 39 PVIN, 40 PVIN, 41 VOUT, 42 PH

## VREG_TPS82085_SON8
designator U?, comment TPS82085  (value not drawn)
DC2DC Switching MODULE, Buck, 3A, ADJ, 2.5MHz, integrated Inductor; PARAM2: 2.5~6Vin, ADJ,; MANF: Texas Instruments; MANF_P#: TPS82085SIL; PARAM: 3A, 2.5MHz, -40~85oC; PRICE: 4.5$; Value: TPS82085; PACKAGE: SIL-8
footprint PSON65_8T_3X3 (SIL-8, MicroSiP, PSON, 8-Leads, Body 3.00x2.90mm, Pitch 0.65mm)
pins: 1 EN, 2 PG, 3 VIN, 4 VIN, 5 GND, 6 GND, 7 FB, 8 VOUT, 9 PGND

## VREG_TPS8268180_BGA9
designator U?, comment TPS8268180  (value not drawn)
DC2DC Switching MODULE, Buck, 1.6A, Fixed, 2.5MHz, integrated Inductor; PARAM2: 2.5~5.5Vin, Fixed; MANF: Texas Instruments; MANF_P#: TPS8268180SIP; PARAM: 1.6A, 5.5MHz, -40~85oC; PRICE: 1.5$; Value: TPS8268180; PACKAGE: µSIP-9
footprint BGA80_9_2923 (Module BGA, µSIP, 2.3x2.9x1mm, pitch 0.8mm)
pins: A1 VOUT (power), A2 VOUT (power), A3 VIN (power), B1 MODE (in), B2 EN (in), B3 VIN (power), C1 GND (power), C2 GND (power), C3 GND (power)